# Altium footprint library IPC-SM-782 Section 10.1 SOJ.PcbLib: 32 footprints (part 1 of 2)
Each footprint in its own frame and in the unit in brackets; x right, y up, seen from the top. Pads: shape width x height; smd on the part's side, far side on the other; paste and mask are expansions set on the pad; w line width, h text height; cw(c..) or ccw(c..) is an arc to the next point about the centre after c.
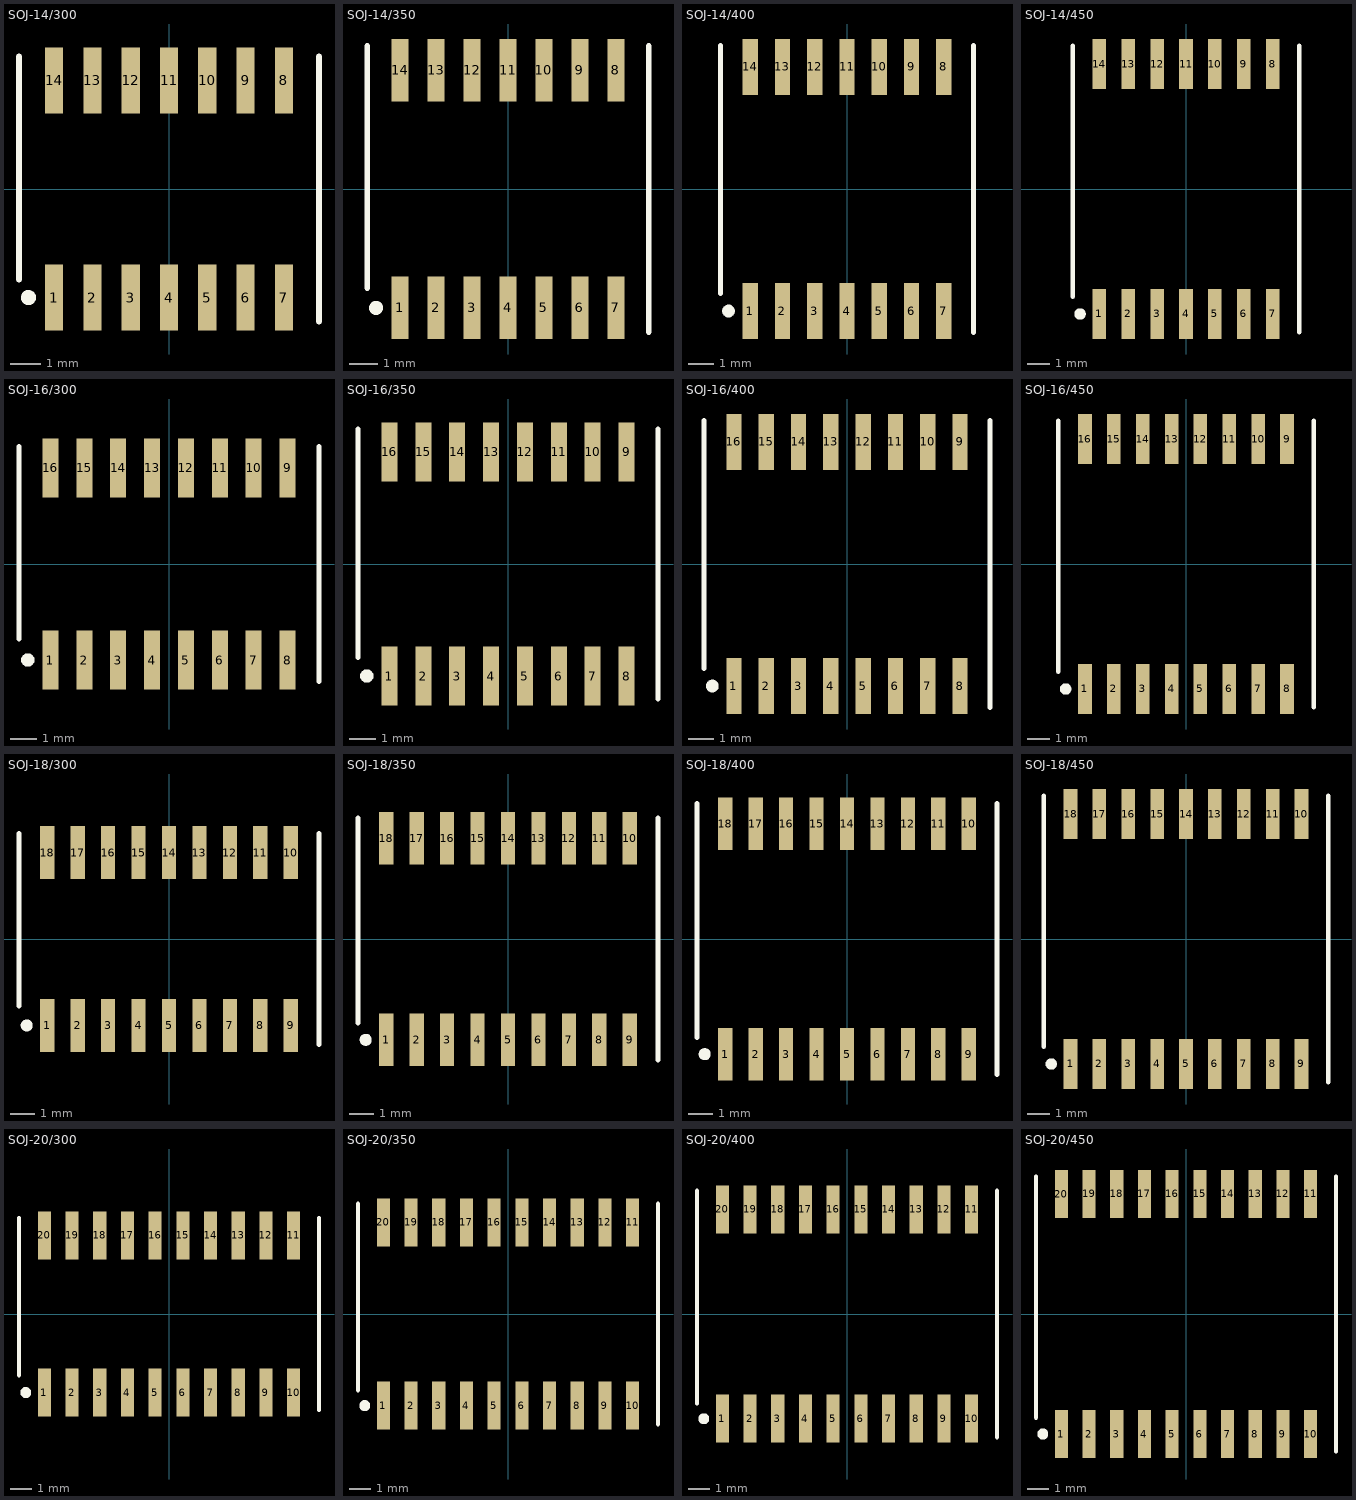
[diagram p0: the footprints below, top view; thin cyan lines are the x and y axes]

## SOJ-14/300 [mm] "SOJ; 14 Leads; Body Width 7.62 mm; Pitch 1.27 mm"
height 3.75
pads (14):
  rect 0.6x2.2 smd: 1(-3.81,-3.6) 2(-2.54,-3.6) 3(-1.27,-3.6) 4(0,-3.6) 5(1.27,-3.6) 6(2.54,-3.6) 7(3.81,-3.6) 8(3.81,3.6) 9(2.54,3.6) 10(1.27,3.6) 11(0,3.6) 12(-1.27,3.6) 13(-2.54,3.6) 14(-3.81,3.6)
Top Overlay:
  circle w0.25: c-4.66,-3.6 r0.125
  lines w0.2: -4.975,-3 -4.975,4.4 ; 4.975,-4.4 4.975,4.4

## SOJ-14/350 [mm] "SOJ; 14 Leads; Body Width 8.9 mm; Pitch 1.27 mm"
height 3.75
pads (14):
  rect 0.6x2.2 smd: 1(-3.81,-4.2) 2(-2.54,-4.2) 3(-1.27,-4.2) 4(0,-4.2) 5(1.27,-4.2) 6(2.54,-4.2) 7(3.81,-4.2) 8(3.81,4.2) 9(2.54,4.2) 10(1.27,4.2) 11(0,4.2) 12(-1.27,4.2) 13(-2.54,4.2) 14(-3.81,4.2)
Top Overlay:
  circle w0.25: c-4.66,-4.2 r0.125
  lines w0.2: -4.975,-3.5 -4.975,5.05 ; 4.975,-5.05 4.975,5.05

## SOJ-14/400 [mm] "SOJ; 14 Leads; Body Width 10.16 mm; Pitch 1.27 mm"
height 3.75
pads (14):
  rect 0.6x2.2 smd: 1(-3.81,-4.8) 2(-2.54,-4.8) 3(-1.27,-4.8) 4(0,-4.8) 5(1.27,-4.8) 6(2.54,-4.8) 7(3.81,-4.8) 8(3.81,4.8) 9(2.54,4.8) 10(1.27,4.8) 11(0,4.8) 12(-1.27,4.8) 13(-2.54,4.8) 14(-3.81,4.8)
Top Overlay:
  circle w0.25: c-4.66,-4.8 r0.125
  lines w0.2: -4.975,-4.1 -4.975,5.65 ; 4.975,-5.65 4.975,5.65

## SOJ-14/450 [mm] "SOJ; 14 Leads; Body Width 11.4 mm; Pitch 1.27 mm"
height 3.75
pads (14):
  rect 0.6x2.2 smd: 1(-3.81,-5.5) 2(-2.54,-5.5) 3(-1.27,-5.5) 4(0,-5.5) 5(1.27,-5.5) 6(2.54,-5.5) 7(3.81,-5.5) 8(3.81,5.5) 9(2.54,5.5) 10(1.27,5.5) 11(0,5.5) 12(-1.27,5.5) 13(-2.54,5.5) 14(-3.81,5.5)
Top Overlay:
  circle w0.25: c-4.66,-5.5 r0.125
  lines w0.2: -4.975,-4.75 -4.975,6.3 ; 4.975,-6.3 4.975,6.3

## SOJ-16/300 [mm] "SOJ; 16 Leads; Body Width 7.62 mm; Pitch 1.27 mm"
height 3.75
pads (16):
  rect 0.6x2.2 smd: 1(-4.445,-3.6) 2(-3.175,-3.6) 3(-1.905,-3.6) 4(-0.635,-3.6) 5(0.635,-3.6) 6(1.905,-3.6) 7(3.175,-3.6) 8(4.445,-3.6) 9(4.445,3.6) 10(3.175,3.6) 11(1.905,3.6) 12(0.635,3.6) 13(-0.635,3.6) 14(-1.905,3.6) 15(-3.175,3.6) 16(-4.445,3.6)
Top Overlay:
  circle w0.25: c-5.295,-3.6 r0.125
  lines w0.2: -5.625,-2.8 -5.625,4.4 ; 5.625,-4.4 5.625,4.4

## SOJ-16/350 [mm] "SOJ; 16 Leads; Body Width 8.9 mm; Pitch 1.27 mm"
height 3.75
pads (16):
  rect 0.6x2.2 smd: 1(-4.445,-4.2) 2(-3.175,-4.2) 3(-1.905,-4.2) 4(-0.635,-4.2) 5(0.635,-4.2) 6(1.905,-4.2) 7(3.175,-4.2) 8(4.445,-4.2) 9(4.445,4.2) 10(3.175,4.2) 11(1.905,4.2) 12(0.635,4.2) 13(-0.635,4.2) 14(-1.905,4.2) 15(-3.175,4.2) 16(-4.445,4.2)
Top Overlay:
  circle w0.25: c-5.295,-4.2 r0.125
  lines w0.2: -5.625,-3.5 -5.625,5.05 ; 5.625,-5.05 5.625,5.05

## SOJ-16/400 [mm] "SOJ; 16 Leads; Body Width 10.16 mm; Pitch 1.27 mm"
height 3.75
pads (16):
  rect 0.6x2.2 smd: 1(-4.445,-4.8) 2(-3.175,-4.8) 3(-1.905,-4.8) 4(-0.635,-4.8) 5(0.635,-4.8) 6(1.905,-4.8) 7(3.175,-4.8) 8(4.445,-4.8) 9(4.445,4.8) 10(3.175,4.8) 11(1.905,4.8) 12(0.635,4.8) 13(-0.635,4.8) 14(-1.905,4.8) 15(-3.175,4.8) 16(-4.445,4.8)
Top Overlay:
  circle w0.25: c-5.295,-4.8 r0.125
  lines w0.2: -5.625,-4.1 -5.625,5.65 ; 5.625,-5.65 5.625,5.65

## SOJ-16/450 [mm] "SOJ; 16 Leads; Body Width 11.4 mm; Pitch 1.27 mm"
height 3.75
pads (16):
  rect 0.6x2.2 smd: 1(-4.445,-5.5) 2(-3.175,-5.5) 3(-1.905,-5.5) 4(-0.635,-5.5) 5(0.635,-5.5) 6(1.905,-5.5) 7(3.175,-5.5) 8(4.445,-5.5) 9(4.445,5.5) 10(3.175,5.5) 11(1.905,5.5) 12(0.635,5.5) 13(-0.635,5.5) 14(-1.905,5.5) 15(-3.175,5.5) 16(-4.445,5.5)
Top Overlay:
  circle w0.25: c-5.295,-5.5 r0.125
  lines w0.2: -5.625,-4.75 -5.625,6.3 ; 5.625,-6.3 5.625,6.3

## SOJ-18/300 [mm] "SOJ; 18 Leads; Body Width 7.62 mm; Pitch 1.27 mm"
height 3.75
pads (18):
  rect 0.6x2.2 smd: 1(-5.08,-3.6) 2(-3.81,-3.6) 3(-2.54,-3.6) 4(-1.27,-3.6) 5(0,-3.6) 6(1.27,-3.6) 7(2.54,-3.6) 8(3.81,-3.6) 9(5.08,-3.6) 10(5.08,3.6) 11(3.81,3.6) 12(2.54,3.6) 13(1.27,3.6) 14(0,3.6) 15(-1.27,3.604) 16(-2.54,3.6) 17(-3.81,3.6) 18(-5.08,3.6)
Top Overlay:
  circle w0.25: c-5.93,-3.6 r0.125
  lines w0.2: -6.25,-2.8 -6.25,4.4 ; 6.25,-4.4 6.25,4.4

## SOJ-18/350 [mm] "SOJ; 18 Leads; Body Width 8.9 mm; Pitch 1.27 mm"
height 3.75
pads (18):
  rect 0.6x2.2 smd: 1(-5.08,-4.2) 2(-3.81,-4.2) 3(-2.54,-4.2) 4(-1.27,-4.2) 5(0,-4.2) 6(1.27,-4.2) 7(2.54,-4.2) 8(3.81,-4.2) 9(5.08,-4.2) 10(5.08,4.2) 11(3.81,4.2) 12(2.54,4.2) 13(1.27,4.2) 14(0,4.2) 15(-1.27,4.2) 16(-2.54,4.2) 17(-3.81,4.2) 18(-5.08,4.2)
Top Overlay:
  circle w0.25: c-5.93,-4.2 r0.125
  lines w0.2: -6.25,-3.5 -6.25,5.05 ; 6.25,-5.05 6.25,5.05

## SOJ-18/400 [mm] "SOJ; 18 Leads; Body Width 10.16 mm; Pitch 1.27 mm"
height 3.75
pads (18):
  rect 0.6x2.2 smd: 1(-5.08,-4.8) 2(-3.81,-4.8) 3(-2.54,-4.8) 4(-1.27,-4.8) 5(0,-4.8) 6(1.27,-4.8) 7(2.54,-4.8) 8(3.81,-4.8) 9(5.08,-4.8) 10(5.08,4.8) 11(3.81,4.8) 12(2.54,4.8) 13(1.27,4.8) 14(0,4.8) 15(-1.27,4.8) 16(-2.54,4.8) 17(-3.81,4.8) 18(-5.08,4.8)
Top Overlay:
  circle w0.25: c-5.93,-4.8 r0.125
  lines w0.2: -6.25,-4.1 -6.25,5.65 ; 6.25,-5.65 6.25,5.65

## SOJ-18/450 [mm] "SOJ; 18 Leads; Body Width 11.4 mm; Pitch 1.27 mm"
height 3.75
pads (18):
  rect 0.6x2.2 smd: 1(-5.08,-5.5) 2(-3.81,-5.5) 3(-2.54,-5.5) 4(-1.27,-5.5) 5(0,-5.5) 6(1.27,-5.5) 7(2.54,-5.5) 8(3.81,-5.5) 9(5.08,-5.5) 10(5.08,5.5) 11(3.81,5.5) 12(2.54,5.5) 13(1.27,5.5) 14(0,5.5) 15(-1.27,5.5) 16(-2.54,5.5) 17(-3.81,5.5) 18(-5.08,5.5)
Top Overlay:
  circle w0.25: c-5.93,-5.5 r0.125
  lines w0.2: -6.25,-4.75 -6.25,6.3 ; 6.25,-6.3 6.25,6.3

## SOJ-20/300 [mm] "SOJ; 20 Leads; Body Width 7.62 mm; Pitch 1.27 mm"
height 3.75
pads (20):
  rect 0.6x2.2 smd: 1(-5.715,-3.6) 2(-4.445,-3.6) 3(-3.175,-3.6) 4(-1.905,-3.6) 5(-0.635,-3.6) 6(0.635,-3.6) 7(1.905,-3.6) 8(3.175,-3.6) 9(4.445,-3.6) 10(5.715,-3.6) 11(5.715,3.6) 12(4.445,3.6) 13(3.175,3.6) 14(1.905,3.6) 15(0.635,3.6) 16(-0.635,3.6) 17(-1.905,3.6) 18(-3.175,3.6) 19(-4.445,3.6) 20(-5.715,3.6)
Top Overlay:
  circle w0.25: c-6.565,-3.6 r0.125
  lines w0.2: -6.875,-2.8 -6.875,4.4 ; 6.875,-4.4 6.875,4.4

## SOJ-20/350 [mm] "SOJ; 20 Leads; Body Width 8.9 mm; Pitch 1.27 mm"
height 3.75
pads (20):
  rect 0.6x2.2 smd: 1(-5.715,-4.2) 2(-4.445,-4.2) 3(-3.175,-4.2) 4(-1.905,-4.2) 5(-0.635,-4.2) 6(0.635,-4.2) 7(1.905,-4.2) 8(3.175,-4.2) 9(4.445,-4.2) 10(5.715,-4.2) 11(5.715,4.2) 12(4.445,4.2) 13(3.175,4.2) 14(1.905,4.2) 15(0.635,4.2) 16(-0.635,4.2) 17(-1.905,4.2) 18(-3.175,4.2) 19(-4.445,4.2) 20(-5.715,4.2)
Top Overlay:
  circle w0.25: c-6.565,-4.2 r0.125
  lines w0.2: -6.875,-3.5 -6.875,5.05 ; 6.875,-5.05 6.875,5.05

## SOJ-20/400 [mm] "SOJ; 20 Leads; Body Width 10.16 mm; Pitch 1.27 mm"
height 3.75
pads (20):
  rect 0.6x2.2 smd: 1(-5.715,-4.8) 2(-4.445,-4.8) 3(-3.175,-4.8) 4(-1.905,-4.8) 5(-0.635,-4.8) 6(0.635,-4.8) 7(1.905,-4.8) 8(3.175,-4.8) 9(4.445,-4.8) 10(5.715,-4.8) 11(5.715,4.8) 12(4.445,4.8) 13(3.175,4.8) 14(1.905,4.8) 15(0.635,4.8) 16(-0.635,4.8) 17(-1.905,4.8) 18(-3.175,4.8) 19(-4.445,4.8) 20(-5.715,4.8)
Top Overlay:
  circle w0.25: c-6.565,-4.8 r0.125
  lines w0.2: -6.875,-4.1 -6.875,5.65 ; 6.875,-5.65 6.875,5.65

## SOJ-20/450 [mm] "SOJ; 20 Leads; Body Width 11.4 mm; Pitch 1.27 mm"
height 3.75
pads (20):
  rect 0.6x2.2 smd: 1(-5.715,-5.5) 2(-4.445,-5.5) 3(-3.175,-5.5) 4(-1.905,-5.5) 5(-0.635,-5.5) 6(0.635,-5.5) 7(1.905,-5.5) 8(3.175,-5.5) 9(4.445,-5.5) 10(5.715,-5.5) 11(5.715,5.5) 12(4.445,5.5) 13(3.175,5.5) 14(1.905,5.5) 15(0.635,5.5) 16(-0.635,5.5) 17(-1.905,5.5) 18(-3.175,5.5) 19(-4.445,5.5) 20(-5.715,5.5)
Top Overlay:
  circle w0.25: c-6.565,-5.5 r0.125
  lines w0.2: -6.875,-4.75 -6.875,6.3 ; 6.875,-6.3 6.875,6.3